# Altium schematic symbol library pico-clasp-3.SchLib: 1 symbol
Pins are listed as number, name and electrical type; pins without a type are passive.

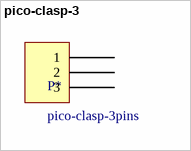
[diagram p0: symbol pico-clasp-3]

## pico-clasp-3
designator P*, comment pico-clasp-3pins
3 pins pico clasp
footprint 3 pins pico-clasp
pins: 1, 2, 3